# Altium footprint library 2.54排针排母.PcbLib: 65 footprints (part 1 of 5)
Each footprint in its own frame and in the unit in brackets; x right, y up, seen from the top. Pads: shape width x height; smd on the part's side, far side on the other; paste and mask are expansions set on the pad; w line width, h text height; cw(c..) or ccw(c..) is an arc to the next point about the centre after c.
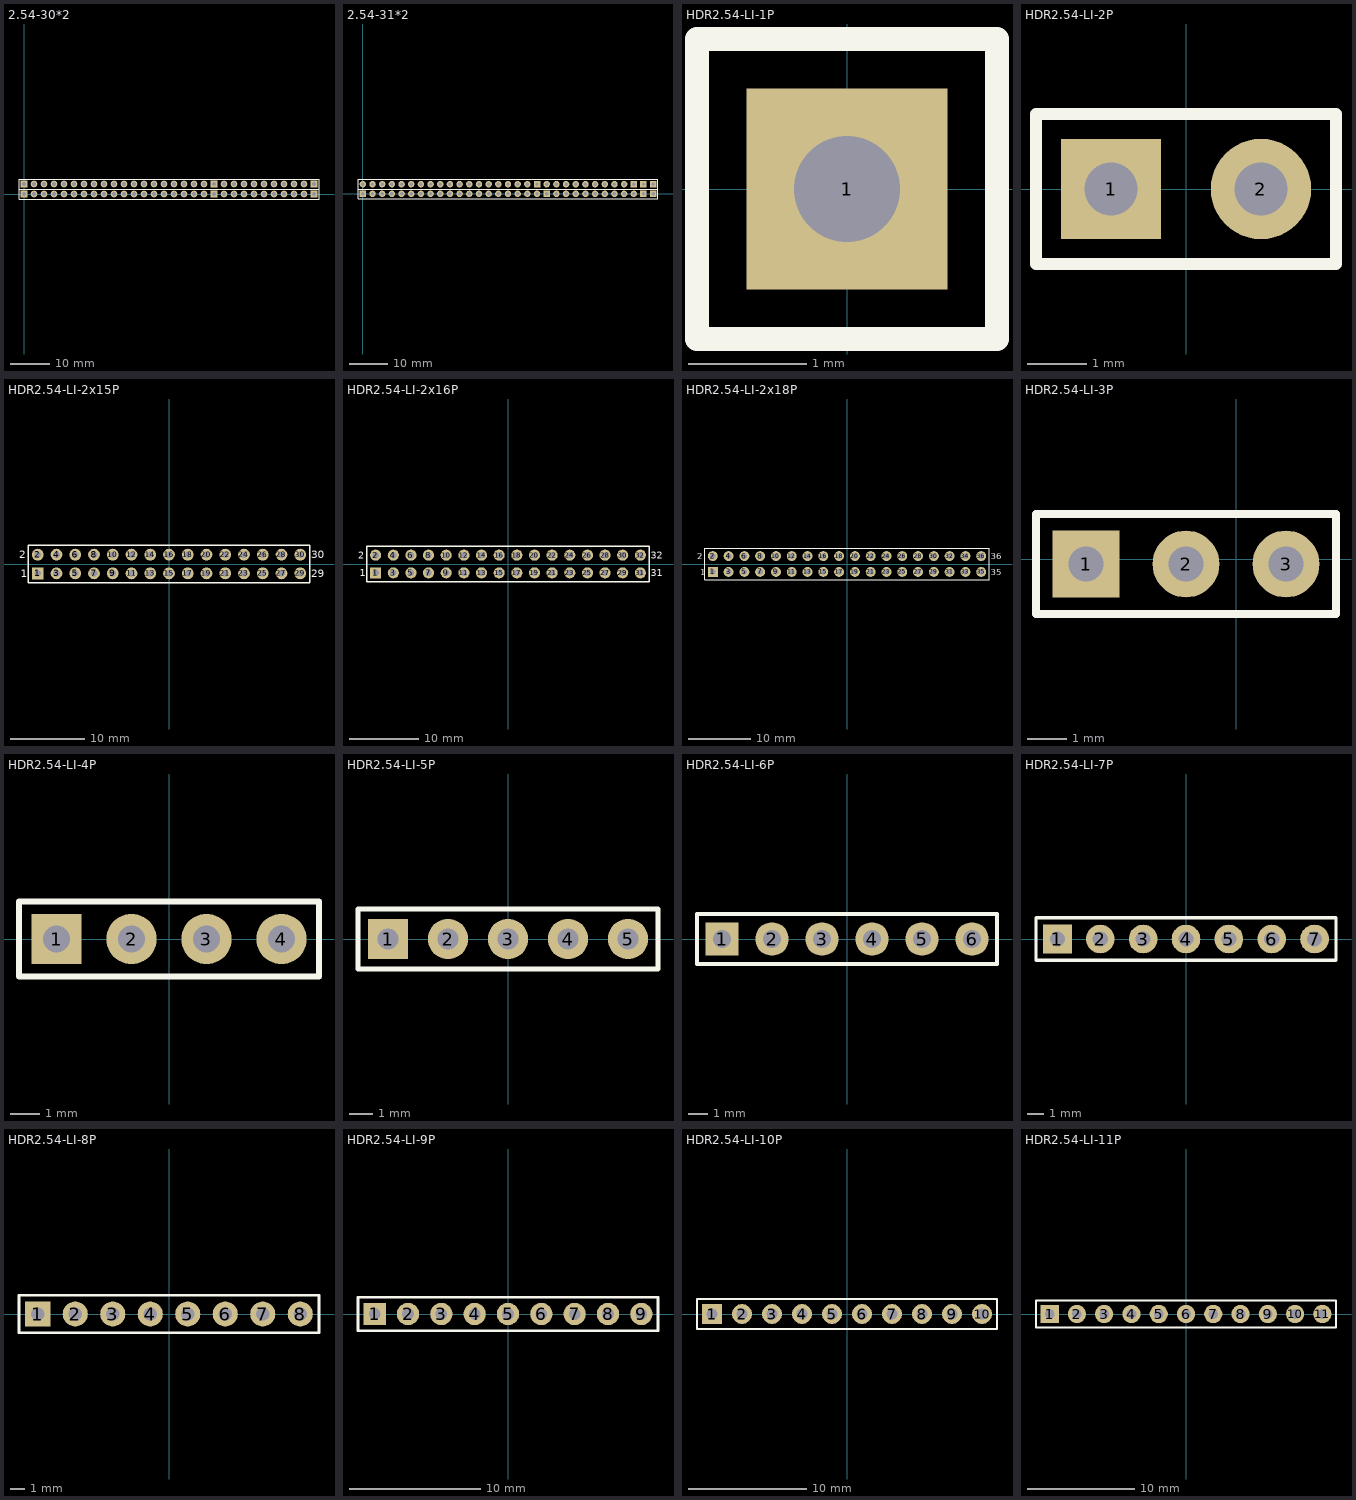
[diagram p0: the footprints below, top view; thin cyan lines are the x and y axes]

## 2.54-30*2 [mm] "30*2的双排母"
pads (60):
  rect 1.7x1.7 hole 0.9: 1(0,0) 20(48.26,0) 30(73.66,0) 31(0,2.54) 50(48.26,2.54) 60(73.66,2.54)
  round 1.7 hole 0.9: 2(2.54,0) 3(5.08,0) 4(7.62,0) 5(10.16,0) 6(12.7,0) 7(15.24,0) 8(17.78,0) 9(20.32,0) 10(22.86,0) 11(25.4,0) 12(27.94,0) 13(30.48,0) 14(33.02,0) 15(35.56,0) 16(38.1,0) 17(40.64,0) 18(43.18,0) 19(45.72,0) 21(50.8,0) 22(53.34,0) 23(55.88,0) 24(58.42,0) 25(60.96,0) 26(63.5,0) 27(66.04,0) 28(68.58,0) 29(71.12,0) 32(2.54,2.54) 33(5.08,2.54) 34(7.62,2.54) 35(10.16,2.54) 36(12.7,2.54) 37(15.24,2.54) 38(17.78,2.54) 39(20.32,2.54) 40(22.86,2.54) 41(25.4,2.54) 42(27.94,2.54) 43(30.48,2.54) 44(33.02,2.54) 45(35.56,2.54) 46(38.1,2.54) 47(40.64,2.54) 48(43.18,2.54) 49(45.72,2.54) 51(50.8,2.54) 52(53.34,2.54) 53(55.88,2.54) 54(58.42,2.54) 55(60.96,2.54) 56(63.5,2.54) 57(66.04,2.54) 58(68.58,2.54) 59(71.12,2.54)
Top Overlay:
  lines w0.2: -1.27,1.27 -1.27,-1.27 24.13,-1.27 49.53,-1.27 74.93,-1.27 74.93,1.27 ; -1.27,1.27 24.13,1.27 ; -1.27,1.27 -1.27,3.81 ; -1.27,1.27 24.13,1.27 ; -1.27,3.81 24.13,3.81 ; -1.27,3.81 24.13,3.81 ; 24.13,1.27 49.53,1.27 ; 24.13,1.27 49.53,1.27 ; 24.13,3.81 49.53,3.81 ; 24.13,3.81 49.53,3.81 ; 49.53,1.27 74.93,1.27 ; 49.53,3.81 74.93,3.81 74.93,1.27
3D body "HDR2.54-1P_M.STEP": height 8.5, standoff -3, extent 21.59,-1.27 24.13,1.27
3D body "HDR2.54-1P_M.STEP": height 8.5, standoff -3, extent -1.27,-1.27 1.27,1.27
3D body "HDR2.54-1P_M.STEP": height 8.5, standoff -3, extent 1.27,-1.27 3.81,1.27
3D body "HDR2.54-1P_M.STEP": height 8.5, standoff -3, extent 3.81,-1.27 6.35,1.27
3D body "HDR2.54-1P_M.STEP": height 8.5, standoff -3, extent 6.35,-1.27 8.89,1.27
3D body "HDR2.54-1P_M.STEP": height 8.5, standoff -3, extent 8.89,-1.27 11.43,1.27
3D body "HDR2.54-1P_M.STEP": height 8.5, standoff -3, extent 11.43,-1.27 13.97,1.27
3D body "HDR2.54-1P_M.STEP": height 8.5, standoff -3, extent 13.97,-1.27 16.51,1.27
3D body "HDR2.54-1P_M.STEP": height 8.5, standoff -3, extent 16.51,-1.27 19.05,1.27
3D body "HDR2.54-1P_M.STEP": height 8.5, standoff -3, extent 19.05,-1.27 21.59,1.27
3D body "HDR2.54-1P_M.STEP": height 8.5, standoff -3, extent 24.13,-1.27 26.67,1.27
3D body "HDR2.54-1P_M.STEP": height 8.5, standoff -3, extent 46.99,-1.27 49.53,1.27
3D body "HDR2.54-1P_M.STEP": height 8.5, standoff -3, extent 44.45,-1.27 46.99,1.27
3D body "HDR2.54-1P_M.STEP": height 8.5, standoff -3, extent 41.91,-1.27 44.45,1.27
3D body "HDR2.54-1P_M.STEP": height 8.5, standoff -3, extent 39.37,-1.27 41.91,1.27
3D body "HDR2.54-1P_M.STEP": height 8.5, standoff -3, extent 36.83,-1.27 39.37,1.27
3D body "HDR2.54-1P_M.STEP": height 8.5, standoff -3, extent 34.29,-1.27 36.83,1.27
3D body "HDR2.54-1P_M.STEP": height 8.5, standoff -3, extent 31.75,-1.27 34.29,1.27
3D body "HDR2.54-1P_M.STEP": height 8.5, standoff -3, extent 29.21,-1.27 31.75,1.27
3D body "HDR2.54-1P_M.STEP": height 8.5, standoff -3, extent 26.67,-1.27 29.21,1.27
3D body "HDR2.54-1P_M.STEP": height 8.5, standoff -3, extent 49.53,-1.27 52.07,1.27
3D body "HDR2.54-1P_M.STEP": height 8.5, standoff -3, extent 72.39,-1.27 74.93,1.27
3D body "HDR2.54-1P_M.STEP": height 8.5, standoff -3, extent 69.85,-1.27 72.39,1.27
3D body "HDR2.54-1P_M.STEP": height 8.5, standoff -3, extent 67.31,-1.27 69.85,1.27
3D body "HDR2.54-1P_M.STEP": height 8.5, standoff -3, extent 64.77,-1.27 67.31,1.27
3D body "HDR2.54-1P_M.STEP": height 8.5, standoff -3, extent 62.23,-1.27 64.77,1.27
3D body "HDR2.54-1P_M.STEP": height 8.5, standoff -3, extent 59.69,-1.27 62.23,1.27
3D body "HDR2.54-1P_M.STEP": height 8.5, standoff -3, extent 57.15,-1.27 59.69,1.27
3D body "HDR2.54-1P_M.STEP": height 8.5, standoff -3, extent 54.61,-1.27 57.15,1.27
3D body "HDR2.54-1P_M.STEP": height 8.5, standoff -3, extent 52.07,-1.27 54.61,1.27
3D body "HDR2.54-1P_M.STEP": height 8.5, standoff -3, extent 21.59,1.27 24.13,3.81
3D body "HDR2.54-1P_M.STEP": height 8.5, standoff -3, extent -1.27,1.27 1.27,3.81
3D body "HDR2.54-1P_M.STEP": height 8.5, standoff -3, extent 1.27,1.27 3.81,3.81
3D body "HDR2.54-1P_M.STEP": height 8.5, standoff -3, extent 3.81,1.27 6.35,3.81
3D body "HDR2.54-1P_M.STEP": height 8.5, standoff -3, extent 6.35,1.27 8.89,3.81
3D body "HDR2.54-1P_M.STEP": height 8.5, standoff -3, extent 8.89,1.27 11.43,3.81
3D body "HDR2.54-1P_M.STEP": height 8.5, standoff -3, extent 11.43,1.27 13.97,3.81
3D body "HDR2.54-1P_M.STEP": height 8.5, standoff -3, extent 13.97,1.27 16.51,3.81
3D body "HDR2.54-1P_M.STEP": height 8.5, standoff -3, extent 16.51,1.27 19.05,3.81
3D body "HDR2.54-1P_M.STEP": height 8.5, standoff -3, extent 19.05,1.27 21.59,3.81
3D body "HDR2.54-1P_M.STEP": height 8.5, standoff -3, extent 24.13,1.27 26.67,3.81
3D body "HDR2.54-1P_M.STEP": height 8.5, standoff -3, extent 46.99,1.27 49.53,3.81
3D body "HDR2.54-1P_M.STEP": height 8.5, standoff -3, extent 44.45,1.27 46.99,3.81
3D body "HDR2.54-1P_M.STEP": height 8.5, standoff -3, extent 41.91,1.27 44.45,3.81
3D body "HDR2.54-1P_M.STEP": height 8.5, standoff -3, extent 39.37,1.27 41.91,3.81
3D body "HDR2.54-1P_M.STEP": height 8.5, standoff -3, extent 36.83,1.27 39.37,3.81
3D body "HDR2.54-1P_M.STEP": height 8.5, standoff -3, extent 34.29,1.27 36.83,3.81
3D body "HDR2.54-1P_M.STEP": height 8.5, standoff -3, extent 31.75,1.27 34.29,3.81
3D body "HDR2.54-1P_M.STEP": height 8.5, standoff -3, extent 29.21,1.27 31.75,3.81
3D body "HDR2.54-1P_M.STEP": height 8.5, standoff -3, extent 26.67,1.27 29.21,3.81
3D body "HDR2.54-1P_M.STEP": height 8.5, standoff -3, extent 49.53,1.27 52.07,3.81
3D body "HDR2.54-1P_M.STEP": height 8.5, standoff -3, extent 72.39,1.27 74.93,3.81
3D body "HDR2.54-1P_M.STEP": height 8.5, standoff -3, extent 69.85,1.27 72.39,3.81
3D body "HDR2.54-1P_M.STEP": height 8.5, standoff -3, extent 67.31,1.27 69.85,3.81
3D body "HDR2.54-1P_M.STEP": height 8.5, standoff -3, extent 64.77,1.27 67.31,3.81
3D body "HDR2.54-1P_M.STEP": height 8.5, standoff -3, extent 62.23,1.27 64.77,3.81
3D body "HDR2.54-1P_M.STEP": height 8.5, standoff -3, extent 59.69,1.27 62.23,3.81
3D body "HDR2.54-1P_M.STEP": height 8.5, standoff -3, extent 57.15,1.27 59.69,3.81
3D body "HDR2.54-1P_M.STEP": height 8.5, standoff -3, extent 54.61,1.27 57.15,3.81
3D body "HDR2.54-1P_M.STEP": height 8.5, standoff -3, extent 52.07,1.27 54.61,3.81

## 2.54-31*2 [mm] "双排母31*2"
pads (62):
  rect 1.7x1.7 hole 0.9: 1(0,0) 20(48.26,0) 30(73.66,0) 31(76.2,0) 50(45.72,2.54) 60(71.12,2.54) 61(73.66,2.54) 62(76.2,2.54)
  round 1.7 hole 0.9: 2(2.54,0) 3(5.08,0) 4(7.62,0) 5(10.16,0) 6(12.7,0) 7(15.24,0) 8(17.78,0) 9(20.32,0) 10(22.86,0) 11(25.4,0) 12(27.94,0) 13(30.48,0) 14(33.02,0) 15(35.56,0) 16(38.1,0) 17(40.64,0) 18(43.18,0) 19(45.72,0) 21(50.8,0) 22(53.34,0) 23(55.88,0) 24(58.42,0) 25(60.96,0) 26(63.5,0) 27(66.04,0) 28(68.58,0) 29(71.12,0) 32(0,2.54) 33(2.54,2.54) 34(5.08,2.54) 35(7.62,2.54) 36(10.16,2.54) 37(12.7,2.54) 38(15.24,2.54) 39(17.78,2.54) 40(20.32,2.54) 41(22.86,2.54) 42(25.4,2.54) 43(27.94,2.54) 44(30.48,2.54) 45(33.02,2.54) 46(35.56,2.54) 47(38.1,2.54) 48(40.64,2.54) 49(43.18,2.54) 51(48.26,2.54) 52(50.8,2.54) 53(53.34,2.54) 54(55.88,2.54) 55(58.42,2.54) 56(60.96,2.54) 57(63.5,2.54) 58(66.04,2.54) 59(68.58,2.54)
Top Overlay:
  lines w0.2: -1.27,1.27 24.13,1.27 -1.27,1.27 ; -1.27,1.27 -1.27,-1.27 24.13,-1.27 49.53,-1.27 77.47,-1.27 77.47,1.27 ; -1.27,1.27 -1.27,3.81 ; -1.27,3.81 24.13,3.81 ; -1.27,3.81 24.13,3.81 ; 24.13,3.81 49.53,3.81 ; 24.13,3.81 49.53,3.81 ; 49.53,1.27 77.47,1.27 ; 49.53,1.27 21.59,1.27 49.53,1.27 ; 49.53,3.81 77.47,3.81 77.47,1.27
3D body "HDR2.54-1P_M.STEP": height 8.5, standoff -3, extent 49.53,1.27 52.07,3.81
3D body "HDR2.54-1P_M.STEP": height 8.5, standoff -3, extent 52.07,1.27 54.61,3.81
3D body "HDR2.54-1P_M.STEP": height 8.5, standoff -3, extent 54.61,1.27 57.15,3.81
3D body "HDR2.54-1P_M.STEP": height 8.5, standoff -3, extent 57.15,1.27 59.69,3.81
3D body "HDR2.54-1P_M.STEP": height 8.5, standoff -3, extent 59.69,1.27 62.23,3.81
3D body "HDR2.54-1P_M.STEP": height 8.5, standoff -3, extent 62.23,1.27 64.77,3.81
3D body "HDR2.54-1P_M.STEP": height 8.5, standoff -3, extent 64.77,1.27 67.31,3.81
3D body "HDR2.54-1P_M.STEP": height 8.5, standoff -3, extent 67.31,1.27 69.85,3.81
3D body "HDR2.54-1P_M.STEP": height 8.5, standoff -3, extent 69.85,1.27 72.39,3.81
3D body "HDR2.54-1P_M.STEP": height 8.5, standoff -3, extent 46.99,1.27 49.53,3.81
3D body "HDR2.54-1P_M.STEP": height 8.5, standoff -3, extent 24.13,1.27 26.67,3.81
3D body "HDR2.54-1P_M.STEP": height 8.5, standoff -3, extent 26.67,1.27 29.21,3.81
3D body "HDR2.54-1P_M.STEP": height 8.5, standoff -3, extent 29.21,1.27 31.75,3.81
3D body "HDR2.54-1P_M.STEP": height 8.5, standoff -3, extent 31.75,1.27 34.29,3.81
3D body "HDR2.54-1P_M.STEP": height 8.5, standoff -3, extent 34.29,1.27 36.83,3.81
3D body "HDR2.54-1P_M.STEP": height 8.5, standoff -3, extent 36.83,1.27 39.37,3.81
3D body "HDR2.54-1P_M.STEP": height 8.5, standoff -3, extent 39.37,1.27 41.91,3.81
3D body "HDR2.54-1P_M.STEP": height 8.5, standoff -3, extent 41.91,1.27 44.45,3.81
3D body "HDR2.54-1P_M.STEP": height 8.5, standoff -3, extent 44.45,1.27 46.99,3.81
3D body "HDR2.54-1P_M.STEP": height 8.5, standoff -3, extent 21.59,1.27 24.13,3.81
3D body "HDR2.54-1P_M.STEP": height 8.5, standoff -3, extent 16.51,1.27 19.05,3.81
3D body "HDR2.54-1P_M.STEP": height 8.5, standoff -3, extent 13.97,1.27 16.51,3.81
3D body "HDR2.54-1P_M.STEP": height 8.5, standoff -3, extent 11.43,1.27 13.97,3.81
3D body "HDR2.54-1P_M.STEP": height 8.5, standoff -3, extent 8.89,1.27 11.43,3.81
3D body "HDR2.54-1P_M.STEP": height 8.5, standoff -3, extent 6.35,1.27 8.89,3.81
3D body "HDR2.54-1P_M.STEP": height 8.5, standoff -3, extent 3.81,1.27 6.35,3.81
3D body "HDR2.54-1P_M.STEP": height 8.5, standoff -3, extent 1.27,1.27 3.81,3.81
3D body "HDR2.54-1P_M.STEP": height 8.5, standoff -3, extent -1.27,1.27 1.27,3.81
3D body "HDR2.54-1P_M.STEP": height 8.5, standoff -3, extent 19.05,1.27 21.59,3.81
3D body "HDR2.54-1P_M.STEP": height 8.5, standoff -3, extent 52.07,-1.27 54.61,1.27
3D body "HDR2.54-1P_M.STEP": height 8.5, standoff -3, extent 54.61,-1.27 57.15,1.27
3D body "HDR2.54-1P_M.STEP": height 8.5, standoff -3, extent 57.15,-1.27 59.69,1.27
3D body "HDR2.54-1P_M.STEP": height 8.5, standoff -3, extent 59.69,-1.27 62.23,1.27
3D body "HDR2.54-1P_M.STEP": height 8.5, standoff -3, extent 62.23,-1.27 64.77,1.27
3D body "HDR2.54-1P_M.STEP": height 8.5, standoff -3, extent 64.77,-1.27 67.31,1.27
3D body "HDR2.54-1P_M.STEP": height 8.5, standoff -3, extent 67.31,-1.27 69.85,1.27
3D body "HDR2.54-1P_M.STEP": height 8.5, standoff -3, extent 69.85,-1.27 72.39,1.27
3D body "HDR2.54-1P_M.STEP": height 8.5, standoff -3, extent 72.39,-1.27 74.93,1.27
3D body "HDR2.54-1P_M.STEP": height 8.5, standoff -3, extent 49.53,-1.27 52.07,1.27
3D body "HDR2.54-1P_M.STEP": height 8.5, standoff -3, extent 26.67,-1.27 29.21,1.27
3D body "HDR2.54-1P_M.STEP": height 8.5, standoff -3, extent 29.21,-1.27 31.75,1.27
3D body "HDR2.54-1P_M.STEP": height 8.5, standoff -3, extent 31.75,-1.27 34.29,1.27
3D body "HDR2.54-1P_M.STEP": height 8.5, standoff -3, extent 34.29,-1.27 36.83,1.27
3D body "HDR2.54-1P_M.STEP": height 8.5, standoff -3, extent 36.83,-1.27 39.37,1.27
3D body "HDR2.54-1P_M.STEP": height 8.5, standoff -3, extent 39.37,-1.27 41.91,1.27
3D body "HDR2.54-1P_M.STEP": height 8.5, standoff -3, extent 41.91,-1.27 44.45,1.27
3D body "HDR2.54-1P_M.STEP": height 8.5, standoff -3, extent 44.45,-1.27 46.99,1.27
3D body "HDR2.54-1P_M.STEP": height 8.5, standoff -3, extent 46.99,-1.27 49.53,1.27
3D body "HDR2.54-1P_M.STEP": height 8.5, standoff -3, extent 24.13,-1.27 26.67,1.27
3D body "HDR2.54-1P_M.STEP": height 8.5, standoff -3, extent 19.05,-1.27 21.59,1.27
3D body "HDR2.54-1P_M.STEP": height 8.5, standoff -3, extent 16.51,-1.27 19.05,1.27
3D body "HDR2.54-1P_M.STEP": height 8.5, standoff -3, extent 13.97,-1.27 16.51,1.27
3D body "HDR2.54-1P_M.STEP": height 8.5, standoff -3, extent 11.43,-1.27 13.97,1.27
3D body "HDR2.54-1P_M.STEP": height 8.5, standoff -3, extent 8.89,-1.27 11.43,1.27
3D body "HDR2.54-1P_M.STEP": height 8.5, standoff -3, extent 6.35,-1.27 8.89,1.27
3D body "HDR2.54-1P_M.STEP": height 8.5, standoff -3, extent 3.81,-1.27 6.35,1.27
3D body "HDR2.54-1P_M.STEP": height 8.5, standoff -3, extent 1.27,-1.27 3.81,1.27
3D body "HDR2.54-1P_M.STEP": height 8.5, standoff -3, extent -1.27,-1.27 1.27,1.27
3D body "HDR2.54-1P_M.STEP": height 8.5, standoff -3, extent 21.59,-1.27 24.13,1.27
3D body "HDR2.54-1P_M.STEP": height 8.5, standoff -3, extent 74.93,-1.27 77.47,1.27
3D body "HDR2.54-1P_M.STEP": height 8.5, standoff -3, extent 72.39,1.27 74.93,3.81
3D body "HDR2.54-1P_M.STEP": height 8.5, standoff -3, extent 74.93,1.27 77.47,3.81

## HDR2.54-LI-1P [mm] "排针，1脚"
pads (1):
  rect 1.7x1.7 hole 0.9: 1(0,0)
Top Overlay:
  lines w0.2: -1.27,-1.27 -1.27,1.27 1.27,1.27 1.27,-1.27 -1.27,-1.27
3D body "HDR2.54-1P.STEP": height 8.5, standoff -3, extent -1.27,-1.27 1.27,1.27

## HDR2.54-LI-2P [mm] "排针，2脚"
pads (2):
  rect 1.7x1.7 hole 0.9: 1(-1.27,0)
  round 1.7 hole 0.9: 2(1.27,0)
Top Overlay:
  lines w0.2: -2.54,-1.27 -2.54,1.27 2.54,1.27 2.54,-1.27 -2.54,-1.27
3D body "HDR2.54-1P.STEP": height 8.5, standoff -3, extent 0,-1.27 2.54,1.27
3D body "HDR2.54-1P.STEP": height 8.5, standoff -3, extent -2.54,-1.27 0,1.27

## HDR2.54-LI-2x15P [mm] "双排排针，15x2脚"
pads (30):
  rect 1.6x1.6 hole 0.9: 1(-17.78,-1.27)
  round 1.6 hole 0.9: 2(-17.78,1.27) 3(-15.24,-1.27) 4(-15.24,1.27) 5(-12.7,-1.27) 6(-12.7,1.27) 7(-10.16,-1.27) 8(-10.16,1.27) 9(-7.62,-1.27) 10(-7.62,1.27) 11(-5.08,-1.27) 12(-5.08,1.27) 13(-2.54,-1.27) 14(-2.54,1.27) 15(0,-1.27) 16(0,1.27) 17(2.54,-1.27) 18(2.54,1.27) 19(5.08,-1.27) 20(5.08,1.27) 21(7.62,-1.27) 22(7.62,1.27) 23(10.16,-1.27) 24(10.16,1.27) 25(12.7,-1.27) 26(12.7,1.27) 27(15.24,-1.27) 28(15.24,1.27) 29(17.78,-1.27) 30(17.78,1.27)
Top Overlay:
  lines w0.2: -19.05,-2.54 19.05,-2.54 19.05,2.54 -19.05,2.54 -19.05,-2.54
  text "1" at -20.066,-1.778 h1.02
  text "2" at -20.32,0.762 h1.02
  text "29" at 19.304,-1.778 h1.02
  text "30" at 19.304,0.762 h1.02
3D body "HDR2.54-1x2P.STEP": height 8.5, standoff -3, extent -8.89,-2.54 -6.35,2.54
3D body "HDR2.54-1x2P.STEP": height 8.5, standoff -3, extent -16.51,-2.54 -13.97,2.54
3D body "HDR2.54-1x2P.STEP": height 8.5, standoff -3, extent -19.05,-2.54 -16.51,2.54
3D body "HDR2.54-1x2P.STEP": height 8.5, standoff -3, extent -11.43,-2.54 -8.89,2.54
3D body "HDR2.54-1x2P.STEP": height 8.5, standoff -3, extent -13.97,-2.54 -11.43,2.54
3D body "HDR2.54-1x2P.STEP": height 8.5, standoff -3, extent 3.81,-2.54 6.35,2.54
3D body "HDR2.54-1x2P.STEP": height 8.5, standoff -3, extent -3.81,-2.54 -1.27,2.54
3D body "HDR2.54-1x2P.STEP": height 8.5, standoff -3, extent -6.35,-2.54 -3.81,2.54
3D body "HDR2.54-1x2P.STEP": height 8.5, standoff -3, extent 1.27,-2.54 3.81,2.54
3D body "HDR2.54-1x2P.STEP": height 8.5, standoff -3, extent -1.27,-2.54 1.27,2.54
3D body "HDR2.54-1x2P.STEP": height 8.5, standoff -3, extent 16.51,-2.54 19.05,2.54
3D body "HDR2.54-1x2P.STEP": height 8.5, standoff -3, extent 8.89,-2.54 11.43,2.54
3D body "HDR2.54-1x2P.STEP": height 8.5, standoff -3, extent 6.35,-2.54 8.89,2.54
3D body "HDR2.54-1x2P.STEP": height 8.5, standoff -3, extent 13.97,-2.54 16.51,2.54
3D body "HDR2.54-1x2P.STEP": height 8.5, standoff -3, extent 11.43,-2.54 13.97,2.54

## HDR2.54-LI-2x16P [mm] "双排排针，16x2脚  淘宝ID:黄晶宝石   店铺网址:https://shop463601444.taobao.com"
pads (32):
  rect 1.6x1.6 hole 0.9: 1(-19.05,-1.27)
  round 1.6 hole 0.9: 2(-19.05,1.27) 3(-16.51,-1.27) 4(-16.51,1.27) 5(-13.97,-1.27) 6(-13.97,1.27) 7(-11.43,-1.27) 8(-11.43,1.27) 9(-8.89,-1.27) 10(-8.89,1.27) 11(-6.35,-1.27) 12(-6.35,1.27) 13(-3.81,-1.27) 14(-3.81,1.27) 15(-1.27,-1.27) 16(-1.27,1.27) 17(1.27,-1.27) 18(1.27,1.27) 19(3.81,-1.27) 20(3.81,1.27) 21(6.35,-1.27) 22(6.35,1.27) 23(8.89,-1.27) 24(8.89,1.27) 25(11.43,-1.27) 26(11.43,1.27) 27(13.97,-1.27) 28(13.97,1.27) 29(16.51,-1.27) 30(16.51,1.27) 31(19.05,-1.27) 32(19.05,1.27)
Top Overlay:
  lines w0.2: -20.32,-2.54 20.32,-2.54 20.32,2.54 -20.32,2.54 -20.32,-2.54
  text "2" at -21.59,0.762 h1.02
  text "1" at -21.336,-1.778 h1.02
  text "31" at 20.574,-1.778 h1.02
  text "32" at 20.574,0.762 h1.02
3D body "HDR2.54-1x2P.STEP": height 8.5, standoff -3, extent -10.16,-2.54 -7.62,2.54
3D body "HDR2.54-1x2P.STEP": height 8.5, standoff -3, extent -17.78,-2.54 -15.24,2.54
3D body "HDR2.54-1x2P.STEP": height 8.5, standoff -3, extent -20.32,-2.54 -17.78,2.54
3D body "HDR2.54-1x2P.STEP": height 8.5, standoff -3, extent -12.7,-2.54 -10.16,2.54
3D body "HDR2.54-1x2P.STEP": height 8.5, standoff -3, extent -15.24,-2.54 -12.7,2.54
3D body "HDR2.54-1x2P.STEP": height 8.5, standoff -3, extent 2.54,-2.54 5.08,2.54
3D body "HDR2.54-1x2P.STEP": height 8.5, standoff -3, extent -5.08,-2.54 -2.54,2.54
3D body "HDR2.54-1x2P.STEP": height 8.5, standoff -3, extent -7.62,-2.54 -5.08,2.54
3D body "HDR2.54-1x2P.STEP": height 8.5, standoff -3, extent 0,-2.54 2.54,2.54
3D body "HDR2.54-1x2P.STEP": height 8.5, standoff -3, extent -2.54,-2.54 0,2.54
3D body "HDR2.54-1x2P.STEP": height 8.5, standoff -3, extent 15.24,-2.54 17.78,2.54
3D body "HDR2.54-1x2P.STEP": height 8.5, standoff -3, extent 7.62,-2.54 10.16,2.54
3D body "HDR2.54-1x2P.STEP": height 8.5, standoff -3, extent 5.08,-2.54 7.62,2.54
3D body "HDR2.54-1x2P.STEP": height 8.5, standoff -3, extent 12.7,-2.54 15.24,2.54
3D body "HDR2.54-1x2P.STEP": height 8.5, standoff -3, extent 10.16,-2.54 12.7,2.54
3D body "HDR2.54-1x2P.STEP": height 8.5, standoff -3, extent 17.78,-2.54 20.32,2.54

## HDR2.54-LI-2x18P [mm] "双排排针，18x2脚 淘宝ID:黄晶宝石   店铺网址:https://shop463601444.taobao.com"
pads (36):
  rect 1.6x1.6 hole 0.9: 1(-21.59,-1.27)
  round 1.6 hole 0.9: 2(-21.59,1.27) 3(-19.05,-1.27) 4(-19.05,1.27) 5(-16.51,-1.27) 6(-16.51,1.27) 7(-13.97,-1.27) 8(-13.97,1.27) 9(-11.43,-1.27) 10(-11.43,1.27) 11(-8.89,-1.27) 12(-8.89,1.27) 13(-6.35,-1.27) 14(-6.35,1.27) 15(-3.81,-1.27) 16(-3.81,1.27) 17(-1.27,-1.27) 18(-1.27,1.27) 19(1.27,-1.27) 20(1.27,1.27) 21(3.81,-1.27) 22(3.81,1.27) 23(6.35,-1.27) 24(6.35,1.27) 25(8.89,-1.27) 26(8.89,1.27) 27(11.43,-1.27) 28(11.43,1.27) 29(13.97,-1.27) 30(13.97,1.27) 31(16.51,-1.27) 32(16.51,1.27) 33(19.05,-1.27) 34(19.05,1.27) 35(21.59,-1.27) 36(21.59,1.27)
Top Overlay:
  lines w0.2: -17.78,-2.54 -22.86,-2.54 ; -22.86,-2.54 22.86,-2.54 22.86,2.54 -22.86,2.54 -22.86,-2.54
  text "36" at 23.114,0.762 h1.02
  text "35" at 23.114,-1.778 h1.02
  text "1" at -23.622,-1.778 h1.02
  text "2" at -24.13,0.762 h1.02
3D body "HDR2.54-1x2P.STEP": height 8.5, standoff -3, extent -12.7,-2.54 -10.16,2.54
3D body "HDR2.54-1x2P.STEP": height 8.5, standoff -3, extent -20.32,-2.54 -17.78,2.54
3D body "HDR2.54-1x2P.STEP": height 8.5, standoff -3, extent -22.86,-2.54 -20.32,2.54
3D body "HDR2.54-1x2P.STEP": height 8.5, standoff -3, extent -15.24,-2.54 -12.7,2.54
3D body "HDR2.54-1x2P.STEP": height 8.5, standoff -3, extent -17.78,-2.54 -15.24,2.54
3D body "HDR2.54-1x2P.STEP": height 8.5, standoff -3, extent 0,-2.54 2.54,2.54
3D body "HDR2.54-1x2P.STEP": height 8.5, standoff -3, extent -7.62,-2.54 -5.08,2.54
3D body "HDR2.54-1x2P.STEP": height 8.5, standoff -3, extent -10.16,-2.54 -7.62,2.54
3D body "HDR2.54-1x2P.STEP": height 8.5, standoff -3, extent -2.54,-2.54 0,2.54
3D body "HDR2.54-1x2P.STEP": height 8.5, standoff -3, extent -5.08,-2.54 -2.54,2.54
3D body "HDR2.54-1x2P.STEP": height 8.5, standoff -3, extent 12.7,-2.54 15.24,2.54
3D body "HDR2.54-1x2P.STEP": height 8.5, standoff -3, extent 5.08,-2.54 7.62,2.54
3D body "HDR2.54-1x2P.STEP": height 8.5, standoff -3, extent 2.54,-2.54 5.08,2.54
3D body "HDR2.54-1x2P.STEP": height 8.5, standoff -3, extent 10.16,-2.54 12.7,2.54
3D body "HDR2.54-1x2P.STEP": height 8.5, standoff -3, extent 7.62,-2.54 10.16,2.54
3D body "HDR2.54-1x2P.STEP": height 8.5, standoff -3, extent 17.78,-2.54 20.32,2.54
3D body "HDR2.54-1x2P.STEP": height 8.5, standoff -3, extent 15.24,-2.54 17.78,2.54
3D body "HDR2.54-1x2P.STEP": height 8.5, standoff -3, extent 20.32,-2.54 22.86,2.54

## HDR2.54-LI-3P [mm] "排针，3脚"
pads (3):
  rect 1.7x1.7 hole 0.9: 1(-3.81,-0.127)
  round 1.7 hole 0.9: 2(-1.27,-0.127) 3(1.27,-0.127)
Top Overlay:
  lines w0.2: -5.08,-1.397 2.54,-1.397 2.54,1.143 -5.08,1.143 -5.08,-1.397
3D body "HDR2.54-1P.STEP": height 8.5, standoff -3, extent 0,-1.397 2.54,1.143
3D body "HDR2.54-1P.STEP": height 8.5, standoff -3, extent -2.54,-1.397 0,1.143
3D body "HDR2.54-1P.STEP": height 8.5, standoff -3, extent -5.08,-1.397 -2.54,1.143

## HDR2.54-LI-4P [mm] "排针，4脚"
pads (4):
  rect 1.7x1.7 hole 0.9: 1(-3.81,0)
  round 1.7 hole 0.9: 2(-1.27,0) 3(1.27,0) 4(3.81,0)
Top Overlay:
  lines w0.2: -5.08,-1.27 5.08,-1.27 5.08,1.27 -5.08,1.27 -5.08,-1.27
3D body "HDR2.54-1P.STEP": height 8.5, standoff -3, extent 2.54,-1.27 5.08,1.27
3D body "HDR2.54-1P.STEP": height 8.5, standoff -3, extent 0,-1.27 2.54,1.27
3D body "HDR2.54-1P.STEP": height 8.5, standoff -3, extent -2.54,-1.27 0,1.27
3D body "HDR2.54-1P.STEP": height 8.5, standoff -3, extent -5.08,-1.27 -2.54,1.27

## HDR2.54-LI-5P [mm] "排针，5脚"
pads (5):
  rect 1.7x1.7 hole 0.9: 1(-5.08,0)
  round 1.7 hole 0.9: 2(-2.54,0) 3(0,0) 4(2.54,0) 5(5.08,0)
Top Overlay:
  lines w0.2: -6.35,-1.27 -6.35,1.27 6.35,1.27 6.35,-1.27 -6.35,-1.27
3D body "HDR2.54-1P.STEP": height 8.5, standoff -3, extent 3.81,-1.27 6.35,1.27
3D body "HDR2.54-1P.STEP": height 8.5, standoff -3, extent -1.27,-1.27 1.27,1.27
3D body "HDR2.54-1P.STEP": height 8.5, standoff -3, extent 1.27,-1.27 3.81,1.27
3D body "HDR2.54-1P.STEP": height 8.5, standoff -3, extent -6.35,-1.27 -3.81,1.27
3D body "HDR2.54-1P.STEP": height 8.5, standoff -3, extent -3.81,-1.27 -1.27,1.27

## HDR2.54-LI-6P [mm] "排针，6脚"
pads (6):
  rect 1.7x1.7 hole 0.9: 1(-6.35,0)
  round 1.7 hole 0.9: 2(-3.81,0) 3(-1.27,0) 4(1.27,0) 5(3.81,0) 6(6.35,0)
Top Overlay:
  lines w0.2: -7.62,-1.27 7.62,-1.27 7.62,1.27 -7.62,1.27 -7.62,-1.27
3D body "HDR2.54-1P.STEP": height 8.5, standoff -3, extent -7.62,-1.27 -5.08,1.27
3D body "HDR2.54-1P.STEP": height 8.5, standoff -3, extent -5.08,-1.27 -2.54,1.27
3D body "HDR2.54-1P.STEP": height 8.5, standoff -3, extent -2.54,-1.27 0,1.27
3D body "HDR2.54-1P.STEP": height 8.5, standoff -3, extent 0,-1.27 2.54,1.27
3D body "HDR2.54-1P.STEP": height 8.5, standoff -3, extent 2.54,-1.27 5.08,1.27
3D body "HDR2.54-1P.STEP": height 8.5, standoff -3, extent 5.08,-1.27 7.62,1.27

## HDR2.54-LI-7P [mm] "排针，8脚"
pads (7):
  rect 1.7x1.7 hole 0.9: 1(-7.62,0)
  round 1.7 hole 0.9: 2(-5.08,0) 3(-2.54,0) 4(0,0) 5(2.54,0) 6(5.08,0) 7(7.62,0)
Top Overlay:
  lines w0.2: -8.89,-1.27 8.89,-1.27 8.89,1.27 -8.89,1.27 -8.89,-1.27
3D body "HDR2.54-1P.STEP": height 8.5, standoff -3, extent 6.35,-1.27 8.89,1.27
3D body "HDR2.54-1P.STEP": height 8.5, standoff -3, extent 3.81,-1.27 6.35,1.27
3D body "HDR2.54-1P.STEP": height 8.5, standoff -3, extent 1.27,-1.27 3.81,1.27
3D body "HDR2.54-1P.STEP": height 8.5, standoff -3, extent -1.27,-1.27 1.27,1.27
3D body "HDR2.54-1P.STEP": height 8.5, standoff -3, extent -3.81,-1.27 -1.27,1.27
3D body "HDR2.54-1P.STEP": height 8.5, standoff -3, extent -6.35,-1.27 -3.81,1.27
3D body "HDR2.54-1P.STEP": height 8.5, standoff -3, extent -8.89,-1.27 -6.35,1.27

## HDR2.54-LI-8P [mm] "排针，8脚"
pads (8):
  rect 1.7x1.7 hole 0.9: 1(-8.89,0)
  round 1.7 hole 0.9: 2(-6.35,0) 3(-3.81,0) 4(-1.27,0) 5(1.27,0) 6(3.81,0) 7(6.35,0) 8(8.89,0)
Top Overlay:
  lines w0.2: -10.16,-1.27 10.16,-1.27 10.16,1.27 -10.16,1.27 -10.16,-1.27
3D body "HDR2.54-1P.STEP": height 8.5, standoff -3, extent -10.16,-1.27 -7.62,1.27
3D body "HDR2.54-1P.STEP": height 8.5, standoff -3, extent -7.62,-1.27 -5.08,1.27
3D body "HDR2.54-1P.STEP": height 8.5, standoff -3, extent -5.08,-1.27 -2.54,1.27
3D body "HDR2.54-1P.STEP": height 8.5, standoff -3, extent -2.54,-1.27 0,1.27
3D body "HDR2.54-1P.STEP": height 8.5, standoff -3, extent 0,-1.27 2.54,1.27
3D body "HDR2.54-1P.STEP": height 8.5, standoff -3, extent 5.08,-1.27 7.62,1.27
3D body "HDR2.54-1P.STEP": height 8.5, standoff -3, extent 2.54,-1.27 5.08,1.27
3D body "HDR2.54-1P.STEP": height 8.5, standoff -3, extent 7.62,-1.27 10.16,1.27

## HDR2.54-LI-9P [mm] "排针，9脚"
pads (9):
  rect 1.7x1.7 hole 0.9: 1(-10.16,0)
  round 1.7 hole 0.9: 2(-7.62,0) 3(-5.08,0) 4(-2.54,0) 5(0,0) 6(2.54,0) 7(5.08,0) 8(7.62,0) 9(10.16,0)
Top Overlay:
  lines w0.2: -11.43,-1.27 -11.43,1.27 11.43,1.27 11.43,-1.27 -11.43,-1.27
3D body "HDR2.54-1P.STEP": height 8.5, standoff -3, extent -8.89,-1.27 -6.35,1.27
3D body "HDR2.54-1P.STEP": height 8.5, standoff -3, extent -11.43,-1.27 -8.89,1.27
3D body "HDR2.54-1P.STEP": height 8.5, standoff -3, extent -3.81,-1.27 -1.27,1.27
3D body "HDR2.54-1P.STEP": height 8.5, standoff -3, extent -6.35,-1.27 -3.81,1.27
3D body "HDR2.54-1P.STEP": height 8.5, standoff -3, extent -1.27,-1.27 1.27,1.27
3D body "HDR2.54-1P.STEP": height 8.5, standoff -3, extent 3.81,-1.27 6.35,1.27
3D body "HDR2.54-1P.STEP": height 8.5, standoff -3, extent 1.27,-1.27 3.81,1.27
3D body "HDR2.54-1P.STEP": height 8.5, standoff -3, extent 8.89,-1.27 11.43,1.27
3D body "HDR2.54-1P.STEP": height 8.5, standoff -3, extent 6.35,-1.27 8.89,1.27

## HDR2.54-LI-10P [mm] "排针，10脚"
pads (10):
  rect 1.7x1.7 hole 0.9: 1(-11.43,0)
  round 1.7 hole 0.9: 2(-8.89,0) 3(-6.35,0) 4(-3.81,0) 5(-1.27,0) 6(1.27,0) 7(3.81,0) 8(6.35,0) 9(8.89,0) 10(11.43,0)
Top Overlay:
  lines w0.2: -12.7,-1.27 12.7,-1.27 12.7,1.27 -12.7,1.27 -12.7,-1.27
3D body "HDR2.54-1P.STEP": height 8.5, standoff -3, extent 10.16,-1.27 12.7,1.27
3D body "HDR2.54-1P.STEP": height 8.5, standoff -3, extent 5.08,-1.27 7.62,1.27
3D body "HDR2.54-1P.STEP": height 8.5, standoff -3, extent 7.62,-1.27 10.16,1.27
3D body "HDR2.54-1P.STEP": height 8.5, standoff -3, extent 0,-1.27 2.54,1.27
3D body "HDR2.54-1P.STEP": height 8.5, standoff -3, extent 2.54,-1.27 5.08,1.27
3D body "HDR2.54-1P.STEP": height 8.5, standoff -3, extent -2.54,-1.27 0,1.27
3D body "HDR2.54-1P.STEP": height 8.5, standoff -3, extent -7.62,-1.27 -5.08,1.27
3D body "HDR2.54-1P.STEP": height 8.5, standoff -3, extent -5.08,-1.27 -2.54,1.27
3D body "HDR2.54-1P.STEP": height 8.5, standoff -3, extent -12.7,-1.27 -10.16,1.27
3D body "HDR2.54-1P.STEP": height 8.5, standoff -3, extent -10.16,-1.27 -7.62,1.27

## HDR2.54-LI-11P [mm] "排针，11脚"
pads (11):
  rect 1.7x1.7 hole 0.9: 1(-12.7,0)
  round 1.7 hole 0.9: 2(-10.16,0) 3(-7.62,0) 4(-5.08,0) 5(-2.54,0) 6(0,0) 7(2.54,0) 8(5.08,0) 9(7.62,0) 10(10.16,0) 11(12.7,0)
Top Overlay:
  lines w0.2: -13.97,-1.27 -13.97,1.27 13.97,1.27 13.97,-1.27 -13.97,-1.27
3D body "HDR2.54-1P.STEP": height 8.5, standoff -3, extent 11.43,-1.27 13.97,1.27
3D body "HDR2.54-1P.STEP": height 8.5, standoff -3, extent 8.89,-1.27 11.43,1.27
3D body "HDR2.54-1P.STEP": height 8.5, standoff -3, extent 3.81,-1.27 6.35,1.27
3D body "HDR2.54-1P.STEP": height 8.5, standoff -3, extent 6.35,-1.27 8.89,1.27
3D body "HDR2.54-1P.STEP": height 8.5, standoff -3, extent -1.27,-1.27 1.27,1.27
3D body "HDR2.54-1P.STEP": height 8.5, standoff -3, extent 1.27,-1.27 3.81,1.27
3D body "HDR2.54-1P.STEP": height 8.5, standoff -3, extent -3.81,-1.27 -1.27,1.27
3D body "HDR2.54-1P.STEP": height 8.5, standoff -3, extent -8.89,-1.27 -6.35,1.27
3D body "HDR2.54-1P.STEP": height 8.5, standoff -3, extent -6.35,-1.27 -3.81,1.27
3D body "HDR2.54-1P.STEP": height 8.5, standoff -3, extent -13.97,-1.27 -11.43,1.27
3D body "HDR2.54-1P.STEP": height 8.5, standoff -3, extent -11.43,-1.27 -8.89,1.27